# Altium schematic symbol library molex-mod.SchLib: 1 symbol
Pins are listed as number, name and electrical type; pins without a type are passive.

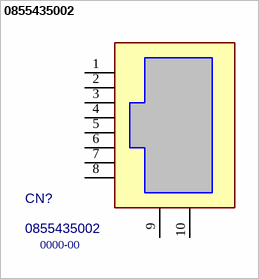
[diagram p0: symbol 0855435002]

## 0855435002
designator CN?, comment 0000-00  value 0855435002
MF: Molex; PN: 0000-00
footprint 0855435002 (Modular Jack, Right Angle, Fully Shielded, True SMT, BLI 13, Cat5)
pins: 1, 2, 3, 4, 5, 6, 7, 8, 9, 10